# Altium footprint library Peak Detector With Banking.PcbLib: 8 footprints
Each footprint in its own frame and in the unit in brackets; x right, y up, seen from the top. Pads: shape width x height; smd on the part's side, far side on the other; paste and mask are expansions set on the pad; w line width, h text height; cw(c..) or ccw(c..) is an arc to the next point about the centre after c.
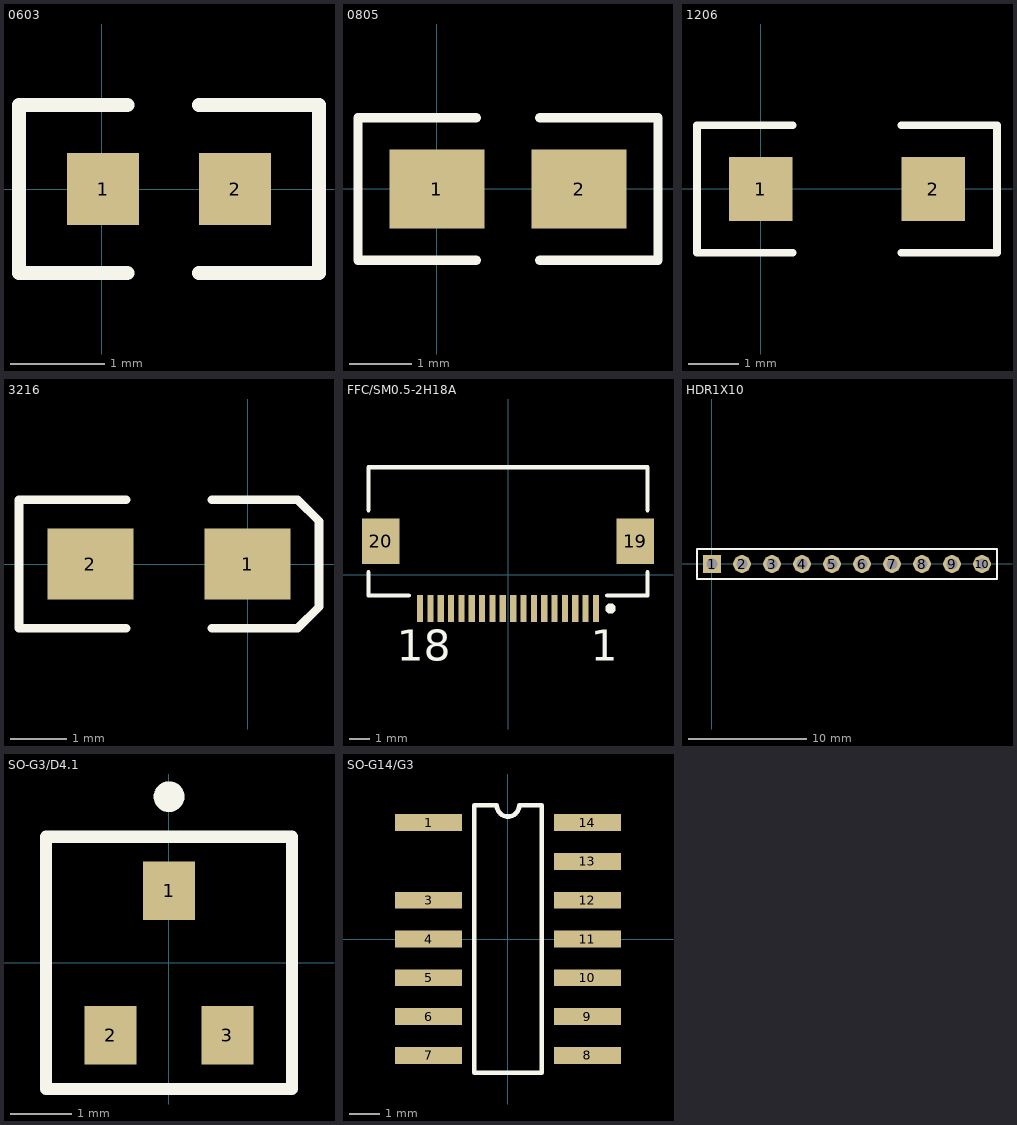
[diagram p0: the footprints below, top view; thin cyan lines are the x and y axes]

## 0603 [mil]
pads (2):
  rect 30x30 smd: 1(0.43,0) 2(55.43,0)
Top Overlay:
  lines w6: -34.58,-35 10.44,-35 ; -34.58,35 10.44,35 ; -34.57,-35 -34.57,35 ; 40.43,-35 90.43,-35 90.43,35 40.43,35

## 0805 [mil]
pads (2):
  rect 60x50 smd: 1(0.01,0) 2(90.01,0)
Top Overlay:
  lines w6: 25.01,-45 -49.99,-45 -49.99,45 25.01,45 ; 65.01,-45 140.01,-45 140.01,45 65.01,45

## 1206 [mil]
pads (2):
  rect 50x50 smd: 1(0,0) 2(135,0)
Top Overlay:
  lines w6: 25,-50 -50,-50 -50,50 25,50 ; 110,-50 185,-50 185,50 110,50

## 3216 [mil]
pads (2):
  rect 60x50 smd: 1(0.01,0) 2(-109.99,0)
Top Overlay:
  lines w6: -84.99,-45 -159.99,-45 -159.99,45 -84.99,45 ; -24.99,-45 35.01,-45 50.01,-30 50.01,30 35.01,45 -24.99,45

## FFC/SM0.5-2H18A [mm]
pads (20):
  rect 0.3x1.3 smd: 1(4.25,-1.625) 2(3.75,-1.625) 3(3.25,-1.625) 4(2.75,-1.625) 5(2.25,-1.625) 6(1.75,-1.625) 7(1.25,-1.625) 8(0.75,-1.625) 9(0.25,-1.625) 10(-0.25,-1.625) 11(-0.75,-1.625) 12(-1.25,-1.625) 13(-1.75,-1.625) 14(-2.25,-1.625) 15(-2.75,-1.625) 16(-3.25,-1.625) 17(-3.75,-1.625) 18(-4.25,-1.625)
  rect 1.8x2.2 smd: 19(6.15,1.625) 20(-6.15,1.625)
Top Overlay:
  circle w0.25: c4.95,-1.625 r0.125
  lines w0.2: -6.75,0.125 -6.75,-1 -4.8,-1 ; -6.75,3.125 -6.75,5.2 6.75,5.2 6.75,3.125 ; 4.8,-1 6.75,-1 6.75,0.125
  text "18" at -5.375,-4.15 h1.5
  text "1" at 4,-4.15 h1.5

## HDR1X10 [mm]
pads (10):
  rect 1.5x1.5 hole 0.9: 1(0,0)
  round 1.5 hole 0.9: 2(2.54,0) 3(5.08,0) 4(7.62,0) 5(10.16,0) 6(12.7,0) 7(15.24,0) 8(17.78,0) 9(20.32,0) 10(22.86,0)
Top Overlay:
  lines w0.2: -1.27,-1.27 -1.27,1.27 0.635,1.27 24.13,1.27 24.13,-1.27 -1.27,-1.27

## SO-G3/D4.1 [mm]
pads (3):
  rect 0.85x0.95 smd: 1(0,1.175) 2(-0.95,-1.175) 3(0.95,-1.175)
Top Overlay:
  circle w0.25: c0,2.7 r0.125
  lines w0.2: -2,-2.05 -2,2.05 2,2.05 2,-2.05 -2,-2.05

## SO-G14/G3 [mm]
pads (13):
  rect 2.2x0.55 smd: 1(-2.6,3.81) 3(-2.6,1.27) 4(-2.6,0) 5(-2.6,-1.27) 6(-2.6,-2.54) 7(-2.6,-3.81) 8(2.6,-3.81) 9(2.6,-2.54) 10(2.6,-1.27) 11(2.6,0) 12(2.6,1.27) 13(2.6,2.54) 14(2.6,3.81)
Top Overlay:
  lines w0.152: -1.1,-4.375 1.1,-4.375 1.1,4.375 0.367,4.375 cw(c0,4.375) -0.366,4.375 -1.1,4.375 -1.1,-4.375